# Altium integrated library Analog Devices Data Converters Analog-to-Digital Converters.IntLib: 2400 symbols (part 286 of 338)
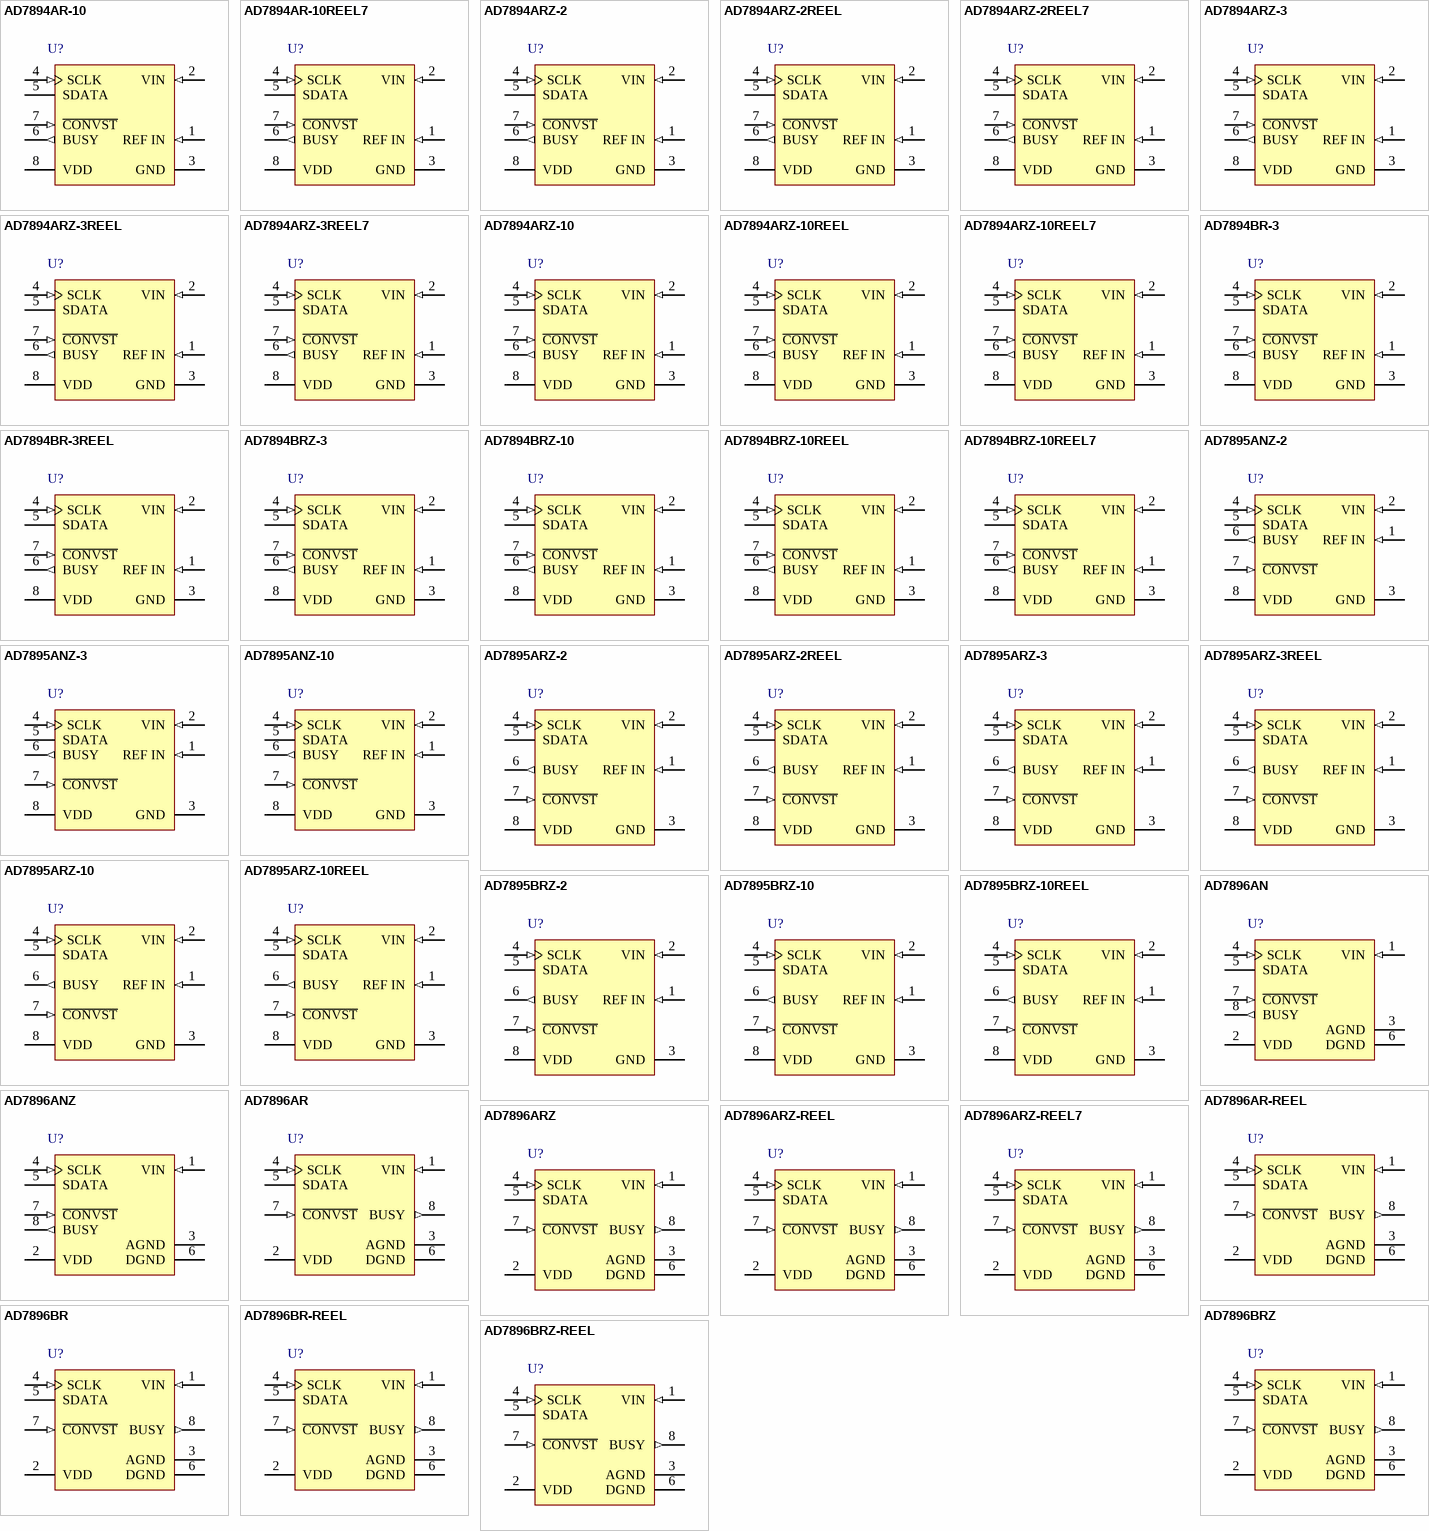
[diagram p311: symbols AD7894AR-10 to AD7896BRZ-REEL]

## AD7895ARZ-3REEL
designator U?
Single 12-Bit Analog-to-Digital Converter with Serial Interface, Serial 3.8 us, 192KSPS, -40 to +85 degC, R-8, Pb-Free, Reel; Part Number: AD7895; Manufacturer: Analog Devices; Resolution (Bits): 12; Channels: 1; Throughput Rate (SPS): 192K; Interface: Ser; DatasheetVersion: Rev.0; PackageVersion: 060506-A; PackageReference: R-8; PackageDescription: 8-Lead Standard Small Outline Package [SOIC_N] Narrow Body; RoHS: Y; Packing: Reel; Mounting Technology: Surface Mount; Code_JEDEC: MS-012-AA; Code_IPC: SOIC127P600-8; ComponentLink1Description: Manufacturer URL; ComponentLink1URL: http://www.analog.com/en/index.html; ComponentLink2Description: Datasheet; ComponentLink2URL: http://www.analog.com/static/imported-files/data_sheets/AD7895.pdf; ComponentLink3Description: Package Specification; ComponentLink3URL: http://www.analog.com/static/imported-files/packages/PKG_PDF/SOIC_Narrow%20(R)/R_8.pdf; ComponentLink4Description: Product URL; ComponentLink4URL: http://www.analog.com/en/analog-to-digital-converters/ad-converters/ad7895/products/product.html
footprint R-8_N (SOIC, 8-Leads, Body 4.9x3.9mm, Pitch 1.27mm, IPC Medium Density)
footprint R-8_L (SOIC, 8-Leads, Body 4.9x3.9mm, Pitch 1.27mm, IPC High Density)
footprint R-8_M (SOIC, 8-Leads, Body 4.9x3.9mm, Pitch 1.27mm, IPC Low Density)
pins: 1 REF IN (in) "Voltage Reference Input.  An external reference source should be connected to this pin to provide the reference voltage for the AD7895's conversion process. The REF IN input is buffered on chip. The nominal reference voltage (See Datasheet)", 2 VIN (in) "Analog Input Channel.  The analog input range is +/- 10 V (AD7895-10), +/- 2.5 V (AD7895-3) and 0 V to +/- 2.5 V (AD7895-2).", 3 GND (power) "Analog Ground. Ground reference for track/hold, comparator, digital circuitry and DAC.", 4 SCLK (in) "Serial Clock Input.   An external serial clock is applied to this input to obtain serial data from the AD7895.A new serial data bit is clocked out on the falling edge of this serial clock. Data is guaranteed valid for 10 ns (See Datasheet)", 5 SDATA (hiz) "Serial Data Output.  Serial data from the AD7895 is provided at this output. The serial data is clocked out by the falling edge of SCLK, but the data can also be read on the falling edge of SCLK. This is possible because (See Datasheet)", 6 BUSY (out) "The BUSY pin is used to indicate when the part is doing a conversion.  The BUSY pin will go high on the falling edge of C\O\N\V\S\T\ and will return low when the conversion is complete.", 7 ~{CONVST} (in) "Convert Start.  Edge-triggered logic input. On the falling edge of this input, the track/hold goes into its hold mode, and conversion is initiated.  If C\O\N\V\S\T\ is low at the end of conversion, the part goes into power (See Datasheet)", 8 VDD (power) "Positive supply voltage, +5 V +/- 5%."

## AD7895ARZ-10
designator U?
Single 12-Bit Analog-to-Digital Converter with Serial Interface, Serial 3.8 us, 192KSPS, -40 to +85 degC, R-8, Pb-Free, Tube; Part Number: AD7895; Manufacturer: Analog Devices; Resolution (Bits): 12; Channels: 1; Throughput Rate (SPS): 192K; Interface: Ser; DatasheetVersion: Rev.0; PackageVersion: 060506-A; PackageReference: R-8; PackageDescription: 8-Lead Standard Small Outline Package [SOIC_N] Narrow Body; RoHS: Y; Packing: Tube; Mounting Technology: Surface Mount; Code_JEDEC: MS-012-AA; Code_IPC: SOIC127P600-8; ComponentLink1Description: Manufacturer URL; ComponentLink1URL: http://www.analog.com/en/index.html; ComponentLink2Description: Datasheet; ComponentLink2URL: http://www.analog.com/static/imported-files/data_sheets/AD7895.pdf; ComponentLink3Description: Package Specification; ComponentLink3URL: http://www.analog.com/static/imported-files/packages/PKG_PDF/SOIC_Narrow%20(R)/R_8.pdf; ComponentLink4Description: Product URL; ComponentLink4URL: http://www.analog.com/en/analog-to-digital-converters/ad-converters/ad7895/products/product.html
footprint R-8_N (SOIC, 8-Leads, Body 4.9x3.9mm, Pitch 1.27mm, IPC Medium Density)
footprint R-8_L (SOIC, 8-Leads, Body 4.9x3.9mm, Pitch 1.27mm, IPC High Density)
footprint R-8_M (SOIC, 8-Leads, Body 4.9x3.9mm, Pitch 1.27mm, IPC Low Density)
pins: 1 REF IN (in) "Voltage Reference Input.  An external reference source should be connected to this pin to provide the reference voltage for the AD7895's conversion process. The REF IN input is buffered on chip. The nominal reference voltage (See Datasheet)", 2 VIN (in) "Analog Input Channel.  The analog input range is +/- 10 V (AD7895-10), +/- 2.5 V (AD7895-3) and 0 V to +/- 2.5 V (AD7895-2).", 3 GND (power) "Analog Ground. Ground reference for track/hold, comparator, digital circuitry and DAC.", 4 SCLK (in) "Serial Clock Input.   An external serial clock is applied to this input to obtain serial data from the AD7895.A new serial data bit is clocked out on the falling edge of this serial clock. Data is guaranteed valid for 10 ns (See Datasheet)", 5 SDATA (hiz) "Serial Data Output.  Serial data from the AD7895 is provided at this output. The serial data is clocked out by the falling edge of SCLK, but the data can also be read on the falling edge of SCLK. This is possible because (See Datasheet)", 6 BUSY (out) "The BUSY pin is used to indicate when the part is doing a conversion.  The BUSY pin will go high on the falling edge of C\O\N\V\S\T\ and will return low when the conversion is complete.", 7 ~{CONVST} (in) "Convert Start.  Edge-triggered logic input. On the falling edge of this input, the track/hold goes into its hold mode, and conversion is initiated.  If C\O\N\V\S\T\ is low at the end of conversion, the part goes into power (See Datasheet)", 8 VDD (power) "Positive supply voltage, +5 V +/- 5%."

## AD7895ARZ-10REEL
designator U?
Single 12-Bit Analog-to-Digital Converter with Serial Interface, Serial 3.8 us, 192KSPS, -40 to +85 degC, R-8, Pb-Free, Reel; Part Number: AD7895; Manufacturer: Analog Devices; Resolution (Bits): 12; Channels: 1; Throughput Rate (SPS): 192K; Interface: Ser; DatasheetVersion: Rev.0; PackageVersion: 060506-A; PackageReference: R-8; PackageDescription: 8-Lead Standard Small Outline Package [SOIC_N] Narrow Body; RoHS: Y; Packing: Reel; Mounting Technology: Surface Mount; Code_JEDEC: MS-012-AA; Code_IPC: SOIC127P600-8; ComponentLink1Description: Manufacturer URL; ComponentLink1URL: http://www.analog.com/en/index.html; ComponentLink2Description: Datasheet; ComponentLink2URL: http://www.analog.com/static/imported-files/data_sheets/AD7895.pdf; ComponentLink3Description: Package Specification; ComponentLink3URL: http://www.analog.com/static/imported-files/packages/PKG_PDF/SOIC_Narrow%20(R)/R_8.pdf; ComponentLink4Description: Product URL; ComponentLink4URL: http://www.analog.com/en/analog-to-digital-converters/ad-converters/ad7895/products/product.html
footprint R-8_N (SOIC, 8-Leads, Body 4.9x3.9mm, Pitch 1.27mm, IPC Medium Density)
footprint R-8_L (SOIC, 8-Leads, Body 4.9x3.9mm, Pitch 1.27mm, IPC High Density)
footprint R-8_M (SOIC, 8-Leads, Body 4.9x3.9mm, Pitch 1.27mm, IPC Low Density)
pins: 1 REF IN (in) "Voltage Reference Input.  An external reference source should be connected to this pin to provide the reference voltage for the AD7895's conversion process. The REF IN input is buffered on chip. The nominal reference voltage (See Datasheet)", 2 VIN (in) "Analog Input Channel.  The analog input range is +/- 10 V (AD7895-10), +/- 2.5 V (AD7895-3) and 0 V to +/- 2.5 V (AD7895-2).", 3 GND (power) "Analog Ground. Ground reference for track/hold, comparator, digital circuitry and DAC.", 4 SCLK (in) "Serial Clock Input.   An external serial clock is applied to this input to obtain serial data from the AD7895.A new serial data bit is clocked out on the falling edge of this serial clock. Data is guaranteed valid for 10 ns (See Datasheet)", 5 SDATA (hiz) "Serial Data Output.  Serial data from the AD7895 is provided at this output. The serial data is clocked out by the falling edge of SCLK, but the data can also be read on the falling edge of SCLK. This is possible because (See Datasheet)", 6 BUSY (out) "The BUSY pin is used to indicate when the part is doing a conversion.  The BUSY pin will go high on the falling edge of C\O\N\V\S\T\ and will return low when the conversion is complete.", 7 ~{CONVST} (in) "Convert Start.  Edge-triggered logic input. On the falling edge of this input, the track/hold goes into its hold mode, and conversion is initiated.  If C\O\N\V\S\T\ is low at the end of conversion, the part goes into power (See Datasheet)", 8 VDD (power) "Positive supply voltage, +5 V +/- 5%."

## AD7895BRZ-2
designator U?
Single 12-Bit Analog-to-Digital Converter with Serial Interface, Serial 3.8 us, 192KSPS, -40 to +85 degC, R-8, Pb-Free, Tube; Part Number: AD7895; Manufacturer: Analog Devices; Resolution (Bits): 12; Channels: 1; Throughput Rate (SPS): 192K; Interface: Ser; DatasheetVersion: Rev.0; PackageVersion: 060506-A; PackageReference: R-8; PackageDescription: 8-Lead Standard Small Outline Package [SOIC_N] Narrow Body; RoHS: Y; Packing: Tube; Mounting Technology: Surface Mount; Code_JEDEC: MS-012-AA; Code_IPC: SOIC127P600-8; ComponentLink1Description: Manufacturer URL; ComponentLink1URL: http://www.analog.com/en/index.html; ComponentLink2Description: Datasheet; ComponentLink2URL: http://www.analog.com/static/imported-files/data_sheets/AD7895.pdf; ComponentLink3Description: Package Specification; ComponentLink3URL: http://www.analog.com/static/imported-files/packages/PKG_PDF/SOIC_Narrow%20(R)/R_8.pdf; ComponentLink4Description: Product URL; ComponentLink4URL: http://www.analog.com/en/analog-to-digital-converters/ad-converters/ad7895/products/product.html
footprint R-8_N (SOIC, 8-Leads, Body 4.9x3.9mm, Pitch 1.27mm, IPC Medium Density)
footprint R-8_L (SOIC, 8-Leads, Body 4.9x3.9mm, Pitch 1.27mm, IPC High Density)
footprint R-8_M (SOIC, 8-Leads, Body 4.9x3.9mm, Pitch 1.27mm, IPC Low Density)
pins: 1 REF IN (in) "Voltage Reference Input.  An external reference source should be connected to this pin to provide the reference voltage for the AD7895's conversion process. The REF IN input is buffered on chip. The nominal reference voltage (See Datasheet)", 2 VIN (in) "Analog Input Channel.  The analog input range is +/- 10 V (AD7895-10), +/- 2.5 V (AD7895-3) and 0 V to +/- 2.5 V (AD7895-2).", 3 GND (power) "Analog Ground. Ground reference for track/hold, comparator, digital circuitry and DAC.", 4 SCLK (in) "Serial Clock Input.   An external serial clock is applied to this input to obtain serial data from the AD7895.A new serial data bit is clocked out on the falling edge of this serial clock. Data is guaranteed valid for 10 ns (See Datasheet)", 5 SDATA (hiz) "Serial Data Output.  Serial data from the AD7895 is provided at this output. The serial data is clocked out by the falling edge of SCLK, but the data can also be read on the falling edge of SCLK. This is possible because (See Datasheet)", 6 BUSY (out) "The BUSY pin is used to indicate when the part is doing a conversion.  The BUSY pin will go high on the falling edge of C\O\N\V\S\T\ and will return low when the conversion is complete.", 7 ~{CONVST} (in) "Convert Start.  Edge-triggered logic input. On the falling edge of this input, the track/hold goes into its hold mode, and conversion is initiated.  If C\O\N\V\S\T\ is low at the end of conversion, the part goes into power (See Datasheet)", 8 VDD (power) "Positive supply voltage, +5 V +/- 5%."

## AD7895BRZ-10
designator U?
Single 12-Bit Analog-to-Digital Converter with Serial Interface, Serial 3.8 us, 192KSPS, -40 to +85 degC, R-8, Pb-Free, Tube; Part Number: AD7895; Manufacturer: Analog Devices; Resolution (Bits): 12; Channels: 1; Throughput Rate (SPS): 192K; Interface: Ser; DatasheetVersion: Rev.0; PackageVersion: 060506-A; PackageReference: R-8; PackageDescription: 8-Lead Standard Small Outline Package [SOIC_N] Narrow Body; RoHS: Y; Packing: Tube; Mounting Technology: Surface Mount; Code_JEDEC: MS-012-AA; Code_IPC: SOIC127P600-8; ComponentLink1Description: Manufacturer URL; ComponentLink1URL: http://www.analog.com/en/index.html; ComponentLink2Description: Datasheet; ComponentLink2URL: http://www.analog.com/static/imported-files/data_sheets/AD7895.pdf; ComponentLink3Description: Package Specification; ComponentLink3URL: http://www.analog.com/static/imported-files/packages/PKG_PDF/SOIC_Narrow%20(R)/R_8.pdf; ComponentLink4Description: Product URL; ComponentLink4URL: http://www.analog.com/en/analog-to-digital-converters/ad-converters/ad7895/products/product.html
footprint R-8_N (SOIC, 8-Leads, Body 4.9x3.9mm, Pitch 1.27mm, IPC Medium Density)
footprint R-8_L (SOIC, 8-Leads, Body 4.9x3.9mm, Pitch 1.27mm, IPC High Density)
footprint R-8_M (SOIC, 8-Leads, Body 4.9x3.9mm, Pitch 1.27mm, IPC Low Density)
pins: 1 REF IN (in) "Voltage Reference Input.  An external reference source should be connected to this pin to provide the reference voltage for the AD7895's conversion process. The REF IN input is buffered on chip. The nominal reference voltage (See Datasheet)", 2 VIN (in) "Analog Input Channel.  The analog input range is +/- 10 V (AD7895-10), +/- 2.5 V (AD7895-3) and 0 V to +/- 2.5 V (AD7895-2).", 3 GND (power) "Analog Ground. Ground reference for track/hold, comparator, digital circuitry and DAC.", 4 SCLK (in) "Serial Clock Input.   An external serial clock is applied to this input to obtain serial data from the AD7895.A new serial data bit is clocked out on the falling edge of this serial clock. Data is guaranteed valid for 10 ns (See Datasheet)", 5 SDATA (hiz) "Serial Data Output.  Serial data from the AD7895 is provided at this output. The serial data is clocked out by the falling edge of SCLK, but the data can also be read on the falling edge of SCLK. This is possible because (See Datasheet)", 6 BUSY (out) "The BUSY pin is used to indicate when the part is doing a conversion.  The BUSY pin will go high on the falling edge of C\O\N\V\S\T\ and will return low when the conversion is complete.", 7 ~{CONVST} (in) "Convert Start.  Edge-triggered logic input. On the falling edge of this input, the track/hold goes into its hold mode, and conversion is initiated.  If C\O\N\V\S\T\ is low at the end of conversion, the part goes into power (See Datasheet)", 8 VDD (power) "Positive supply voltage, +5 V +/- 5%."

## AD7895BRZ-10REEL
designator U?
Single 12-Bit Analog-to-Digital Converter with Serial Interface, Serial 3.8 us, 192KSPS, -40 to +85 degC, R-8, Pb-Free, Reel; Part Number: AD7895; Manufacturer: Analog Devices; Resolution (Bits): 12; Channels: 1; Throughput Rate (SPS): 192K; Interface: Ser; DatasheetVersion: Rev.0; PackageVersion: 060506-A; PackageReference: R-8; PackageDescription: 8-Lead Standard Small Outline Package [SOIC_N] Narrow Body; RoHS: Y; Packing: Reel; Mounting Technology: Surface Mount; Code_JEDEC: MS-012-AA; Code_IPC: SOIC127P600-8; ComponentLink1Description: Manufacturer URL; ComponentLink1URL: http://www.analog.com/en/index.html; ComponentLink2Description: Datasheet; ComponentLink2URL: http://www.analog.com/static/imported-files/data_sheets/AD7895.pdf; ComponentLink3Description: Package Specification; ComponentLink3URL: http://www.analog.com/static/imported-files/packages/PKG_PDF/SOIC_Narrow%20(R)/R_8.pdf; ComponentLink4Description: Product URL; ComponentLink4URL: http://www.analog.com/en/analog-to-digital-converters/ad-converters/ad7895/products/product.html
footprint R-8_N (SOIC, 8-Leads, Body 4.9x3.9mm, Pitch 1.27mm, IPC Medium Density)
footprint R-8_L (SOIC, 8-Leads, Body 4.9x3.9mm, Pitch 1.27mm, IPC High Density)
footprint R-8_M (SOIC, 8-Leads, Body 4.9x3.9mm, Pitch 1.27mm, IPC Low Density)
pins: 1 REF IN (in) "Voltage Reference Input.  An external reference source should be connected to this pin to provide the reference voltage for the AD7895's conversion process. The REF IN input is buffered on chip. The nominal reference voltage (See Datasheet)", 2 VIN (in) "Analog Input Channel.  The analog input range is +/- 10 V (AD7895-10), +/- 2.5 V (AD7895-3) and 0 V to +/- 2.5 V (AD7895-2).", 3 GND (power) "Analog Ground. Ground reference for track/hold, comparator, digital circuitry and DAC.", 4 SCLK (in) "Serial Clock Input.   An external serial clock is applied to this input to obtain serial data from the AD7895.A new serial data bit is clocked out on the falling edge of this serial clock. Data is guaranteed valid for 10 ns (See Datasheet)", 5 SDATA (hiz) "Serial Data Output.  Serial data from the AD7895 is provided at this output. The serial data is clocked out by the falling edge of SCLK, but the data can also be read on the falling edge of SCLK. This is possible because (See Datasheet)", 6 BUSY (out) "The BUSY pin is used to indicate when the part is doing a conversion.  The BUSY pin will go high on the falling edge of C\O\N\V\S\T\ and will return low when the conversion is complete.", 7 ~{CONVST} (in) "Convert Start.  Edge-triggered logic input. On the falling edge of this input, the track/hold goes into its hold mode, and conversion is initiated.  If C\O\N\V\S\T\ is low at the end of conversion, the part goes into power (See Datasheet)", 8 VDD (power) "Positive supply voltage, +5 V +/- 5%."

## AD7896AN
designator U?
Single 12-Bit Analog-to-Digital Converter with Serial Interface, 8 us, 2.7 V to 5.5 V, 100KSPS, -40 to +85 degC, N-8, Tube; Part Number: AD7896; Manufacturer: Analog Devices; Resolution (Bits): 12; Channels: 1; Throughput Rate (SPS): 100K; Interface: Ser; DatasheetVersion: Rev.D; PackageVersion: 070606-A; PackageReference: N-8; PackageDescription: 8-Lead Plastic Dual In-Line Package [PDIP] Narrow Body; RoHS: N; Packing: Tube; Mounting Technology: Through-hole; Code_JEDEC: MS-001; ComponentLink1Description: Manufacturer URL; ComponentLink1URL: http://www.analog.com/en/index.html; ComponentLink2Description: Datasheet; ComponentLink2URL: http://www.analog.com/static/imported-files/data_sheets/AD7896.pdf; ComponentLink3Description: Package Specification; ComponentLink3URL: http://www.analog.com/static/imported-files/packages/PKG_PDF/PDIP(N)/N_8.pdf; ComponentLink4Description: Product URL; ComponentLink4URL: http://www.analog.com/en/analog-to-digital-converters/ad-converters/ad7896/products/product.html
footprint N-8 (DIP, 8-Leads, Row Spacing 7.62mm, Pitch 2.54mm, Body 9.6x6.6mm)
pins: 1 VIN (in) "Analog Input. The analog input range is 0 V to VDD.", 2 VDD (power) "Positive supply voltage, 2.7 V to 5.5 V.", 3 AGND (power) "Analog Ground. Ground reference for track-and-hold, comparator, and DAC.", 4 SCLK (in) "Serial Clock Input. An external serial clock is applied to this input to obtain serial data from the AD7896. A new serial data bit is clocked out on the falling edge of this serial clock. Data is guaranteed valid for 10 ns (See Datasheet)", 5 SDATA (hiz) "Serial Data Output.  Serial data from the AD7896 is provided at this output. The serial data is clocked out by the falling edge of SCLK, but the data can also be read on the falling edge of the SCLK. This is possible because (See Datasheet)", 6 DGND (power) "Digital Ground. Ground reference for digital circuitry.", 7 ~{CONVST} (in) "Convert Start. Edge-triggered logic input. On the falling edge of this input, the track-and-hold goes into its hold mode and conversion is initiated. If C\O\N\V\S\T\ is low at the end of conversion, the part goes into (See Datasheet)", 8 BUSY (out) "The BUSY pin is used to indicate when the part is doing a conversion. The BUSY pin goes high on the falling edge of C\O\N\V\S\T\ and returns low when the conversion is complete."

## AD7896ANZ
designator U?
Single 12-Bit Analog-to-Digital Converter with Serial Interface, 8 us, 2.7 V to 5.5 V, 100KSPS, -40 to +85 degC, N-8, Pb-Free, Tube; Part Number: AD7896; Manufacturer: Analog Devices; Resolution (Bits): 12; Channels: 1; Throughput Rate (SPS): 100K; Interface: Ser; DatasheetVersion: Rev.D; PackageVersion: 070606-A; PackageReference: N-8; PackageDescription: 8-Lead Plastic Dual In-Line Package [PDIP] Narrow Body; RoHS: Y; Packing: Tube; Mounting Technology: Through-hole; Code_JEDEC: MS-001; ComponentLink1Description: Manufacturer URL; ComponentLink1URL: http://www.analog.com/en/index.html; ComponentLink2Description: Datasheet; ComponentLink2URL: http://www.analog.com/static/imported-files/data_sheets/AD7896.pdf; ComponentLink3Description: Package Specification; ComponentLink3URL: http://www.analog.com/static/imported-files/packages/PKG_PDF/PDIP(N)/N_8.pdf; ComponentLink4Description: Product URL; ComponentLink4URL: http://www.analog.com/en/analog-to-digital-converters/ad-converters/ad7896/products/product.html
footprint N-8 (DIP, 8-Leads, Row Spacing 7.62mm, Pitch 2.54mm, Body 9.6x6.6mm)
pins: 1 VIN (in) "Analog Input. The analog input range is 0 V to VDD.", 2 VDD (power) "Positive supply voltage, 2.7 V to 5.5 V.", 3 AGND (power) "Analog Ground. Ground reference for track-and-hold, comparator, and DAC.", 4 SCLK (in) "Serial Clock Input. An external serial clock is applied to this input to obtain serial data from the AD7896. A new serial data bit is clocked out on the falling edge of this serial clock. Data is guaranteed valid for 10 ns (See Datasheet)", 5 SDATA (hiz) "Serial Data Output.  Serial data from the AD7896 is provided at this output. The serial data is clocked out by the falling edge of SCLK, but the data can also be read on the falling edge of the SCLK. This is possible because (See Datasheet)", 6 DGND (power) "Digital Ground. Ground reference for digital circuitry.", 7 ~{CONVST} (in) "Convert Start. Edge-triggered logic input. On the falling edge of this input, the track-and-hold goes into its hold mode and conversion is initiated. If C\O\N\V\S\T\ is low at the end of conversion, the part goes into (See Datasheet)", 8 BUSY (out) "The BUSY pin is used to indicate when the part is doing a conversion. The BUSY pin goes high on the falling edge of C\O\N\V\S\T\ and returns low when the conversion is complete."

## AD7896AR
designator U?
Single 12-Bit Analog-to-Digital Converter with Serial Interface, 8 us, 2.7 V to 5.5 V, 100KSPS, -40 to +85 degC, R-8, Tube; Part Number: AD7896; Manufacturer: Analog Devices; Resolution (Bits): 12; Channels: 1; Throughput Rate (SPS): 100K; Interface: Ser; DatasheetVersion: Rev.D; PackageVersion: 060506-A; PackageReference: R-8; PackageDescription: 8-Lead Standard Small Outline Package [SOIC_N] Narrow Body; RoHS: N; Packing: Tube; Mounting Technology: Surface Mount; Code_JEDEC: MS-012-AA; Code_IPC: SOIC127P600-8; ComponentLink1Description: Manufacturer URL; ComponentLink1URL: http://www.analog.com/en/index.html; ComponentLink2Description: Datasheet; ComponentLink2URL: http://www.analog.com/static/imported-files/data_sheets/AD7896.pdf; ComponentLink3Description: Package Specification; ComponentLink3URL: http://www.analog.com/static/imported-files/packages/PKG_PDF/SOIC_Narrow%20(R)/R_8.pdf; ComponentLink4Description: Product URL; ComponentLink4URL: http://www.analog.com/en/analog-to-digital-converters/ad-converters/ad7896/products/product.html
footprint R-8_N (SOIC, 8-Leads, Body 4.9x3.9mm, Pitch 1.27mm, IPC Medium Density)
footprint R-8_L (SOIC, 8-Leads, Body 4.9x3.9mm, Pitch 1.27mm, IPC High Density)
footprint R-8_M (SOIC, 8-Leads, Body 4.9x3.9mm, Pitch 1.27mm, IPC Low Density)
pins: 1 VIN (in) "Analog Input. The analog input range is 0 V to VDD.", 2 VDD (power) "Positive supply voltage, 2.7 V to 5.5 V", 3 AGND (power) "Analog Ground. Ground reference for track-and-hold, comparator, and DAC.", 4 SCLK (in) "Serial Clock Input. An external serial clock is applied to this input to obtain serial data from the AD7896. A new serial data bit is clocked out on the falling edge of this serial clock. Data is guaranteed valid for 10 ns (See Datasheet)", 5 SDATA (hiz) "Serial Data Output.  Serial data from the AD7896 is provided at this output. The serial data is clocked out by the falling edge of SCLK, but the data can also be read on the falling edge of the SCLK. This is possible because (See Datasheet)", 6 DGND (power) "Digital Ground. Ground reference for digital circuitry", 7 ~{CONVST} (in) "Convert Start. Edge-triggered logic input. On the falling edge of this input, the track-and-hold goes into its hold mode and conversion is initiated. If C\O\N\V\S\T\ is low at the end of conversion, the part goes into (See Datasheet)", 8 BUSY (out) "The BUSY pin is used to indicate when the part is doing a conversion. The BUSY pin goes high on the falling edge of C\O\N\V\S\T\ and returns low when the conversion is complete."

## AD7896AR-REEL
designator U?
Single 12-Bit Analog-to-Digital Converter with Serial Interface, 8 us, 2.7 V to 5.5 V, 100KSPS, -40 to +85 degC, R-8, Reel; Part Number: AD7896; Manufacturer: Analog Devices; Resolution (Bits): 12; Channels: 1; Throughput Rate (SPS): 100K; Interface: Ser; DatasheetVersion: Rev.D; PackageVersion: 060506-A; PackageReference: R-8; PackageDescription: 8-Lead Standard Small Outline Package [SOIC_N] Narrow Body; RoHS: N; Packing: Reel; Mounting Technology: Surface Mount; Code_JEDEC: MS-012-AA; Code_IPC: SOIC127P600-8; ComponentLink1Description: Manufacturer URL; ComponentLink1URL: http://www.analog.com/en/index.html; ComponentLink2Description: Datasheet; ComponentLink2URL: http://www.analog.com/static/imported-files/data_sheets/AD7896.pdf; ComponentLink3Description: Package Specification; ComponentLink3URL: http://www.analog.com/static/imported-files/packages/PKG_PDF/SOIC_Narrow%20(R)/R_8.pdf; ComponentLink4Description: Product URL; ComponentLink4URL: http://www.analog.com/en/analog-to-digital-converters/ad-converters/ad7896/products/product.html
footprint R-8_N (SOIC, 8-Leads, Body 4.9x3.9mm, Pitch 1.27mm, IPC Medium Density)
footprint R-8_L (SOIC, 8-Leads, Body 4.9x3.9mm, Pitch 1.27mm, IPC High Density)
footprint R-8_M (SOIC, 8-Leads, Body 4.9x3.9mm, Pitch 1.27mm, IPC Low Density)
pins: 1 VIN (in) "Analog Input. The analog input range is 0 V to VDD.", 2 VDD (power) "Positive supply voltage, 2.7 V to 5.5 V", 3 AGND (power) "Analog Ground. Ground reference for track-and-hold, comparator, and DAC.", 4 SCLK (in) "Serial Clock Input. An external serial clock is applied to this input to obtain serial data from the AD7896. A new serial data bit is clocked out on the falling edge of this serial clock. Data is guaranteed valid for 10 ns (See Datasheet)", 5 SDATA (hiz) "Serial Data Output.  Serial data from the AD7896 is provided at this output. The serial data is clocked out by the falling edge of SCLK, but the data can also be read on the falling edge of the SCLK. This is possible because (See Datasheet)", 6 DGND (power) "Digital Ground. Ground reference for digital circuitry", 7 ~{CONVST} (in) "Convert Start. Edge-triggered logic input. On the falling edge of this input, the track-and-hold goes into its hold mode and conversion is initiated. If C\O\N\V\S\T\ is low at the end of conversion, the part goes into (See Datasheet)", 8 BUSY (out) "The BUSY pin is used to indicate when the part is doing a conversion. The BUSY pin goes high on the falling edge of C\O\N\V\S\T\ and returns low when the conversion is complete."

## AD7896ARZ
designator U?
Single 12-Bit Analog-to-Digital Converter with Serial Interface, 8 us, 2.7 V to 5.5 V, 100KSPS, -40 to +85 degC, R-8, Pb-Free, Tube; Part Number: AD7896; Manufacturer: Analog Devices; Resolution (Bits): 12; Channels: 1; Throughput Rate (SPS): 100K; Interface: Ser; DatasheetVersion: Rev.D; PackageVersion: 060506-A; PackageReference: R-8; PackageDescription: 8-Lead Standard Small Outline Package [SOIC_N] Narrow Body; RoHS: Y; Packing: Tube; Mounting Technology: Surface Mount; Code_JEDEC: MS-012-AA; Code_IPC: SOIC127P600-8; ComponentLink1Description: Manufacturer URL; ComponentLink1URL: http://www.analog.com/en/index.html; ComponentLink2Description: Datasheet; ComponentLink2URL: http://www.analog.com/static/imported-files/data_sheets/AD7896.pdf; ComponentLink3Description: Package Specification; ComponentLink3URL: http://www.analog.com/static/imported-files/packages/PKG_PDF/SOIC_Narrow%20(R)/R_8.pdf; ComponentLink4Description: Product URL; ComponentLink4URL: http://www.analog.com/en/analog-to-digital-converters/ad-converters/ad7896/products/product.html
footprint R-8_N (SOIC, 8-Leads, Body 4.9x3.9mm, Pitch 1.27mm, IPC Medium Density)
footprint R-8_L (SOIC, 8-Leads, Body 4.9x3.9mm, Pitch 1.27mm, IPC High Density)
footprint R-8_M (SOIC, 8-Leads, Body 4.9x3.9mm, Pitch 1.27mm, IPC Low Density)
pins: 1 VIN (in) "Analog Input. The analog input range is 0 V to VDD.", 2 VDD (power) "Positive supply voltage, 2.7 V to 5.5 V", 3 AGND (power) "Analog Ground. Ground reference for track-and-hold, comparator, and DAC.", 4 SCLK (in) "Serial Clock Input. An external serial clock is applied to this input to obtain serial data from the AD7896. A new serial data bit is clocked out on the falling edge of this serial clock. Data is guaranteed valid for 10 ns (See Datasheet)", 5 SDATA (hiz) "Serial Data Output.  Serial data from the AD7896 is provided at this output. The serial data is clocked out by the falling edge of SCLK, but the data can also be read on the falling edge of the SCLK. This is possible because (See Datasheet)", 6 DGND (power) "Digital Ground. Ground reference for digital circuitry", 7 ~{CONVST} (in) "Convert Start. Edge-triggered logic input. On the falling edge of this input, the track-and-hold goes into its hold mode and conversion is initiated. If C\O\N\V\S\T\ is low at the end of conversion, the part goes into (See Datasheet)", 8 BUSY (out) "The BUSY pin is used to indicate when the part is doing a conversion. The BUSY pin goes high on the falling edge of C\O\N\V\S\T\ and returns low when the conversion is complete."

## AD7896ARZ-REEL
designator U?
Single 12-Bit Analog-to-Digital Converter with Serial Interface, 8 us, 2.7 V to 5.5 V, 100KSPS, -40 to +85 degC, R-8, Pb-Free, Reel; Part Number: AD7896; Manufacturer: Analog Devices; Resolution (Bits): 12; Channels: 1; Throughput Rate (SPS): 100K; Interface: Ser; DatasheetVersion: Rev.D; PackageVersion: 060506-A; PackageReference: R-8; PackageDescription: 8-Lead Standard Small Outline Package [SOIC_N] Narrow Body; RoHS: Y; Packing: Reel; Mounting Technology: Surface Mount; Code_JEDEC: MS-012-AA; Code_IPC: SOIC127P600-8; ComponentLink1Description: Manufacturer URL; ComponentLink1URL: http://www.analog.com/en/index.html; ComponentLink2Description: Datasheet; ComponentLink2URL: http://www.analog.com/static/imported-files/data_sheets/AD7896.pdf; ComponentLink3Description: Package Specification; ComponentLink3URL: http://www.analog.com/static/imported-files/packages/PKG_PDF/SOIC_Narrow%20(R)/R_8.pdf; ComponentLink4Description: Product URL; ComponentLink4URL: http://www.analog.com/en/analog-to-digital-converters/ad-converters/ad7896/products/product.html
footprint R-8_N (SOIC, 8-Leads, Body 4.9x3.9mm, Pitch 1.27mm, IPC Medium Density)
footprint R-8_L (SOIC, 8-Leads, Body 4.9x3.9mm, Pitch 1.27mm, IPC High Density)
footprint R-8_M (SOIC, 8-Leads, Body 4.9x3.9mm, Pitch 1.27mm, IPC Low Density)
pins: 1 VIN (in) "Analog Input. The analog input range is 0 V to VDD.", 2 VDD (power) "Positive supply voltage, 2.7 V to 5.5 V", 3 AGND (power) "Analog Ground. Ground reference for track-and-hold, comparator, and DAC.", 4 SCLK (in) "Serial Clock Input. An external serial clock is applied to this input to obtain serial data from the AD7896. A new serial data bit is clocked out on the falling edge of this serial clock. Data is guaranteed valid for 10 ns (See Datasheet)", 5 SDATA (hiz) "Serial Data Output.  Serial data from the AD7896 is provided at this output. The serial data is clocked out by the falling edge of SCLK, but the data can also be read on the falling edge of the SCLK. This is possible because (See Datasheet)", 6 DGND (power) "Digital Ground. Ground reference for digital circuitry", 7 ~{CONVST} (in) "Convert Start. Edge-triggered logic input. On the falling edge of this input, the track-and-hold goes into its hold mode and conversion is initiated. If C\O\N\V\S\T\ is low at the end of conversion, the part goes into (See Datasheet)", 8 BUSY (out) "The BUSY pin is used to indicate when the part is doing a conversion. The BUSY pin goes high on the falling edge of C\O\N\V\S\T\ and returns low when the conversion is complete."

## AD7896ARZ-REEL7
designator U?
Single 12-Bit Analog-to-Digital Converter with Serial Interface, 8 us, 2.7 V to 5.5 V, 100KSPS, 0 to +70 degC, R-8, Pb-Free, Reel; Part Number: AD7896; Manufacturer: Analog Devices; Resolution (Bits): 12; Channels: 1; Throughput Rate (SPS): 100K; Interface: Ser; DatasheetVersion: Rev.D; PackageVersion: 060506-A; PackageReference: R-8; PackageDescription: 8-Lead Standard Small Outline Package [SOIC_N] Narrow Body; RoHS: Y; Packing: Reel; Mounting Technology: Surface Mount; Code_JEDEC: MS-012-AA; Code_IPC: SOIC127P600-8; ComponentLink1Description: Manufacturer URL; ComponentLink1URL: http://www.analog.com/en/index.html; ComponentLink2Description: Datasheet; ComponentLink2URL: http://www.analog.com/static/imported-files/data_sheets/AD7896.pdf; ComponentLink3Description: Package Specification; ComponentLink3URL: http://www.analog.com/static/imported-files/packages/PKG_PDF/SOIC_Narrow%20(R)/R_8.pdf; ComponentLink4Description: Product URL; ComponentLink4URL: http://www.analog.com/en/analog-to-digital-converters/ad-converters/ad7896/products/product.html
footprint R-8_N (SOIC, 8-Leads, Body 4.9x3.9mm, Pitch 1.27mm, IPC Medium Density)
footprint R-8_L (SOIC, 8-Leads, Body 4.9x3.9mm, Pitch 1.27mm, IPC High Density)
footprint R-8_M (SOIC, 8-Leads, Body 4.9x3.9mm, Pitch 1.27mm, IPC Low Density)
pins: 1 VIN (in) "Analog Input. The analog input range is 0 V to VDD.", 2 VDD (power) "Positive supply voltage, 2.7 V to 5.5 V", 3 AGND (power) "Analog Ground. Ground reference for track-and-hold, comparator, and DAC.", 4 SCLK (in) "Serial Clock Input. An external serial clock is applied to this input to obtain serial data from the AD7896. A new serial data bit is clocked out on the falling edge of this serial clock. Data is guaranteed valid for 10 ns (See Datasheet)", 5 SDATA (hiz) "Serial Data Output.  Serial data from the AD7896 is provided at this output. The serial data is clocked out by the falling edge of SCLK, but the data can also be read on the falling edge of the SCLK. This is possible because (See Datasheet)", 6 DGND (power) "Digital Ground. Ground reference for digital circuitry", 7 ~{CONVST} (in) "Convert Start. Edge-triggered logic input. On the falling edge of this input, the track-and-hold goes into its hold mode and conversion is initiated. If C\O\N\V\S\T\ is low at the end of conversion, the part goes into (See Datasheet)", 8 BUSY (out) "The BUSY pin is used to indicate when the part is doing a conversion. The BUSY pin goes high on the falling edge of C\O\N\V\S\T\ and returns low when the conversion is complete."

## AD7896BR
designator U?
Single 12-Bit Analog-to-Digital Converter with Serial Interface, 8 us, 2.7 V to 5.5 V, 100KSPS, -40 to +85 degC, R-8, Tube; Part Number: AD7896; Manufacturer: Analog Devices; Resolution (Bits): 12; Channels: 1; Throughput Rate (SPS): 100K; Interface: Ser; DatasheetVersion: Rev.D; PackageVersion: 060506-A; PackageReference: R-8; PackageDescription: 8-Lead Standard Small Outline Package [SOIC_N] Narrow Body; RoHS: N; Packing: Tube; Mounting Technology: Surface Mount; Code_JEDEC: MS-012-AA; Code_IPC: SOIC127P600-8; ComponentLink1Description: Manufacturer URL; ComponentLink1URL: http://www.analog.com/en/index.html; ComponentLink2Description: Datasheet; ComponentLink2URL: http://www.analog.com/static/imported-files/data_sheets/AD7896.pdf; ComponentLink3Description: Package Specification; ComponentLink3URL: http://www.analog.com/static/imported-files/packages/PKG_PDF/SOIC_Narrow%20(R)/R_8.pdf; ComponentLink4Description: Product URL; ComponentLink4URL: http://www.analog.com/en/analog-to-digital-converters/ad-converters/ad7896/products/product.html
footprint R-8_N (SOIC, 8-Leads, Body 4.9x3.9mm, Pitch 1.27mm, IPC Medium Density)
footprint R-8_L (SOIC, 8-Leads, Body 4.9x3.9mm, Pitch 1.27mm, IPC High Density)
footprint R-8_M (SOIC, 8-Leads, Body 4.9x3.9mm, Pitch 1.27mm, IPC Low Density)
pins: 1 VIN (in) "Analog Input. The analog input range is 0 V to VDD.", 2 VDD (power) "Positive supply voltage, 2.7 V to 5.5 V", 3 AGND (power) "Analog Ground. Ground reference for track-and-hold, comparator, and DAC.", 4 SCLK (in) "Serial Clock Input. An external serial clock is applied to this input to obtain serial data from the AD7896. A new serial data bit is clocked out on the falling edge of this serial clock. Data is guaranteed valid for 10 ns (See Datasheet)", 5 SDATA (hiz) "Serial Data Output.  Serial data from the AD7896 is provided at this output. The serial data is clocked out by the falling edge of SCLK, but the data can also be read on the falling edge of the SCLK. This is possible because (See Datasheet)", 6 DGND (power) "Digital Ground. Ground reference for digital circuitry", 7 ~{CONVST} (in) "Convert Start. Edge-triggered logic input. On the falling edge of this input, the track-and-hold goes into its hold mode and conversion is initiated. If C\O\N\V\S\T\ is low at the end of conversion, the part goes into (See Datasheet)", 8 BUSY (out) "The BUSY pin is used to indicate when the part is doing a conversion. The BUSY pin goes high on the falling edge of C\O\N\V\S\T\ and returns low when the conversion is complete."

## AD7896BR-REEL
designator U?
Single 12-Bit Analog-to-Digital Converter with Serial Interface, 8 us, 2.7 V to 5.5 V, 100KSPS, -40 to +85 degC, R-8, Reel; Part Number: AD7896; Manufacturer: Analog Devices; Resolution (Bits): 12; Channels: 1; Throughput Rate (SPS): 100K; Interface: Ser; DatasheetVersion: Rev.D; PackageVersion: 060506-A; PackageReference: R-8; PackageDescription: 8-Lead Standard Small Outline Package [SOIC_N] Narrow Body; RoHS: N; Packing: Reel; Mounting Technology: Surface Mount; Code_JEDEC: MS-012-AA; Code_IPC: SOIC127P600-8; ComponentLink1Description: Manufacturer URL; ComponentLink1URL: http://www.analog.com/en/index.html; ComponentLink2Description: Datasheet; ComponentLink2URL: http://www.analog.com/static/imported-files/data_sheets/AD7896.pdf; ComponentLink3Description: Package Specification; ComponentLink3URL: http://www.analog.com/static/imported-files/packages/PKG_PDF/SOIC_Narrow%20(R)/R_8.pdf; ComponentLink4Description: Product URL; ComponentLink4URL: http://www.analog.com/en/analog-to-digital-converters/ad-converters/ad7896/products/product.html
footprint R-8_N (SOIC, 8-Leads, Body 4.9x3.9mm, Pitch 1.27mm, IPC Medium Density)
footprint R-8_L (SOIC, 8-Leads, Body 4.9x3.9mm, Pitch 1.27mm, IPC High Density)
footprint R-8_M (SOIC, 8-Leads, Body 4.9x3.9mm, Pitch 1.27mm, IPC Low Density)
pins: 1 VIN (in) "Analog Input. The analog input range is 0 V to VDD.", 2 VDD (power) "Positive supply voltage, 2.7 V to 5.5 V", 3 AGND (power) "Analog Ground. Ground reference for track-and-hold, comparator, and DAC.", 4 SCLK (in) "Serial Clock Input. An external serial clock is applied to this input to obtain serial data from the AD7896. A new serial data bit is clocked out on the falling edge of this serial clock. Data is guaranteed valid for 10 ns (See Datasheet)", 5 SDATA (hiz) "Serial Data Output.  Serial data from the AD7896 is provided at this output. The serial data is clocked out by the falling edge of SCLK, but the data can also be read on the falling edge of the SCLK. This is possible because (See Datasheet)", 6 DGND (power) "Digital Ground. Ground reference for digital circuitry", 7 ~{CONVST} (in) "Convert Start. Edge-triggered logic input. On the falling edge of this input, the track-and-hold goes into its hold mode and conversion is initiated. If C\O\N\V\S\T\ is low at the end of conversion, the part goes into (See Datasheet)", 8 BUSY (out) "The BUSY pin is used to indicate when the part is doing a conversion. The BUSY pin goes high on the falling edge of C\O\N\V\S\T\ and returns low when the conversion is complete."

## AD7896BRZ
designator U?
Single 12-Bit Analog-to-Digital Converter with Serial Interface, 8 us, 2.7 V to 5.5 V, 100KSPS, -40 to +85 degC, R-8, Pb-Free, Tube; Part Number: AD7896; Manufacturer: Analog Devices; Resolution (Bits): 12; Channels: 1; Throughput Rate (SPS): 100K; Interface: Ser; DatasheetVersion: Rev.D; PackageVersion: 060506-A; PackageReference: R-8; PackageDescription: 8-Lead Standard Small Outline Package [SOIC_N] Narrow Body; RoHS: Y; Packing: Tube; Mounting Technology: Surface Mount; Code_JEDEC: MS-012-AA; Code_IPC: SOIC127P600-8; ComponentLink1Description: Manufacturer URL; ComponentLink1URL: http://www.analog.com/en/index.html; ComponentLink2Description: Datasheet; ComponentLink2URL: http://www.analog.com/static/imported-files/data_sheets/AD7896.pdf; ComponentLink3Description: Package Specification; ComponentLink3URL: http://www.analog.com/static/imported-files/packages/PKG_PDF/SOIC_Narrow%20(R)/R_8.pdf; ComponentLink4Description: Product URL; ComponentLink4URL: http://www.analog.com/en/analog-to-digital-converters/ad-converters/ad7896/products/product.html
footprint R-8_N (SOIC, 8-Leads, Body 4.9x3.9mm, Pitch 1.27mm, IPC Medium Density)
footprint R-8_L (SOIC, 8-Leads, Body 4.9x3.9mm, Pitch 1.27mm, IPC High Density)
footprint R-8_M (SOIC, 8-Leads, Body 4.9x3.9mm, Pitch 1.27mm, IPC Low Density)
pins: 1 VIN (in) "Analog Input. The analog input range is 0 V to VDD.", 2 VDD (power) "Positive supply voltage, 2.7 V to 5.5 V", 3 AGND (power) "Analog Ground. Ground reference for track-and-hold, comparator, and DAC.", 4 SCLK (in) "Serial Clock Input. An external serial clock is applied to this input to obtain serial data from the AD7896. A new serial data bit is clocked out on the falling edge of this serial clock. Data is guaranteed valid for 10 ns (See Datasheet)", 5 SDATA (hiz) "Serial Data Output.  Serial data from the AD7896 is provided at this output. The serial data is clocked out by the falling edge of SCLK, but the data can also be read on the falling edge of the SCLK. This is possible because (See Datasheet)", 6 DGND (power) "Digital Ground. Ground reference for digital circuitry", 7 ~{CONVST} (in) "Convert Start. Edge-triggered logic input. On the falling edge of this input, the track-and-hold goes into its hold mode and conversion is initiated. If C\O\N\V\S\T\ is low at the end of conversion, the part goes into (See Datasheet)", 8 BUSY (out) "The BUSY pin is used to indicate when the part is doing a conversion. The BUSY pin goes high on the falling edge of C\O\N\V\S\T\ and returns low when the conversion is complete."

## AD7896BRZ-REEL
designator U?
Single 12-Bit Analog-to-Digital Converter with Serial Interface, 8 us, 2.7 V to 5.5 V, 100KSPS, -40 to +85 degC, R-8, Pb-Free, Reel; Part Number: AD7896; Manufacturer: Analog Devices; Resolution (Bits): 12; Channels: 1; Throughput Rate (SPS): 100K; Interface: Ser; DatasheetVersion: Rev.D; PackageVersion: 060506-A; PackageReference: R-8; PackageDescription: 8-Lead Standard Small Outline Package [SOIC_N] Narrow Body; RoHS: Y; Packing: Reel; Mounting Technology: Surface Mount; Code_JEDEC: MS-012-AA; Code_IPC: SOIC127P600-8; ComponentLink1Description: Manufacturer URL; ComponentLink1URL: http://www.analog.com/en/index.html; ComponentLink2Description: Datasheet; ComponentLink2URL: http://www.analog.com/static/imported-files/data_sheets/AD7896.pdf; ComponentLink3Description: Package Specification; ComponentLink3URL: http://www.analog.com/static/imported-files/packages/PKG_PDF/SOIC_Narrow%20(R)/R_8.pdf; ComponentLink4Description: Product URL; ComponentLink4URL: http://www.analog.com/en/analog-to-digital-converters/ad-converters/ad7896/products/product.html
footprint R-8_N (SOIC, 8-Leads, Body 4.9x3.9mm, Pitch 1.27mm, IPC Medium Density)
footprint R-8_L (SOIC, 8-Leads, Body 4.9x3.9mm, Pitch 1.27mm, IPC High Density)
footprint R-8_M (SOIC, 8-Leads, Body 4.9x3.9mm, Pitch 1.27mm, IPC Low Density)
pins: 1 VIN (in) "Analog Input. The analog input range is 0 V to VDD.", 2 VDD (power) "Positive supply voltage, 2.7 V to 5.5 V", 3 AGND (power) "Analog Ground. Ground reference for track-and-hold, comparator, and DAC.", 4 SCLK (in) "Serial Clock Input. An external serial clock is applied to this input to obtain serial data from the AD7896. A new serial data bit is clocked out on the falling edge of this serial clock. Data is guaranteed valid for 10 ns (See Datasheet)", 5 SDATA (hiz) "Serial Data Output.  Serial data from the AD7896 is provided at this output. The serial data is clocked out by the falling edge of SCLK, but the data can also be read on the falling edge of the SCLK. This is possible because (See Datasheet)", 6 DGND (power) "Digital Ground. Ground reference for digital circuitry", 7 ~{CONVST} (in) "Convert Start. Edge-triggered logic input. On the falling edge of this input, the track-and-hold goes into its hold mode and conversion is initiated. If C\O\N\V\S\T\ is low at the end of conversion, the part goes into (See Datasheet)", 8 BUSY (out) "The BUSY pin is used to indicate when the part is doing a conversion. The BUSY pin goes high on the falling edge of C\O\N\V\S\T\ and returns low when the conversion is complete."

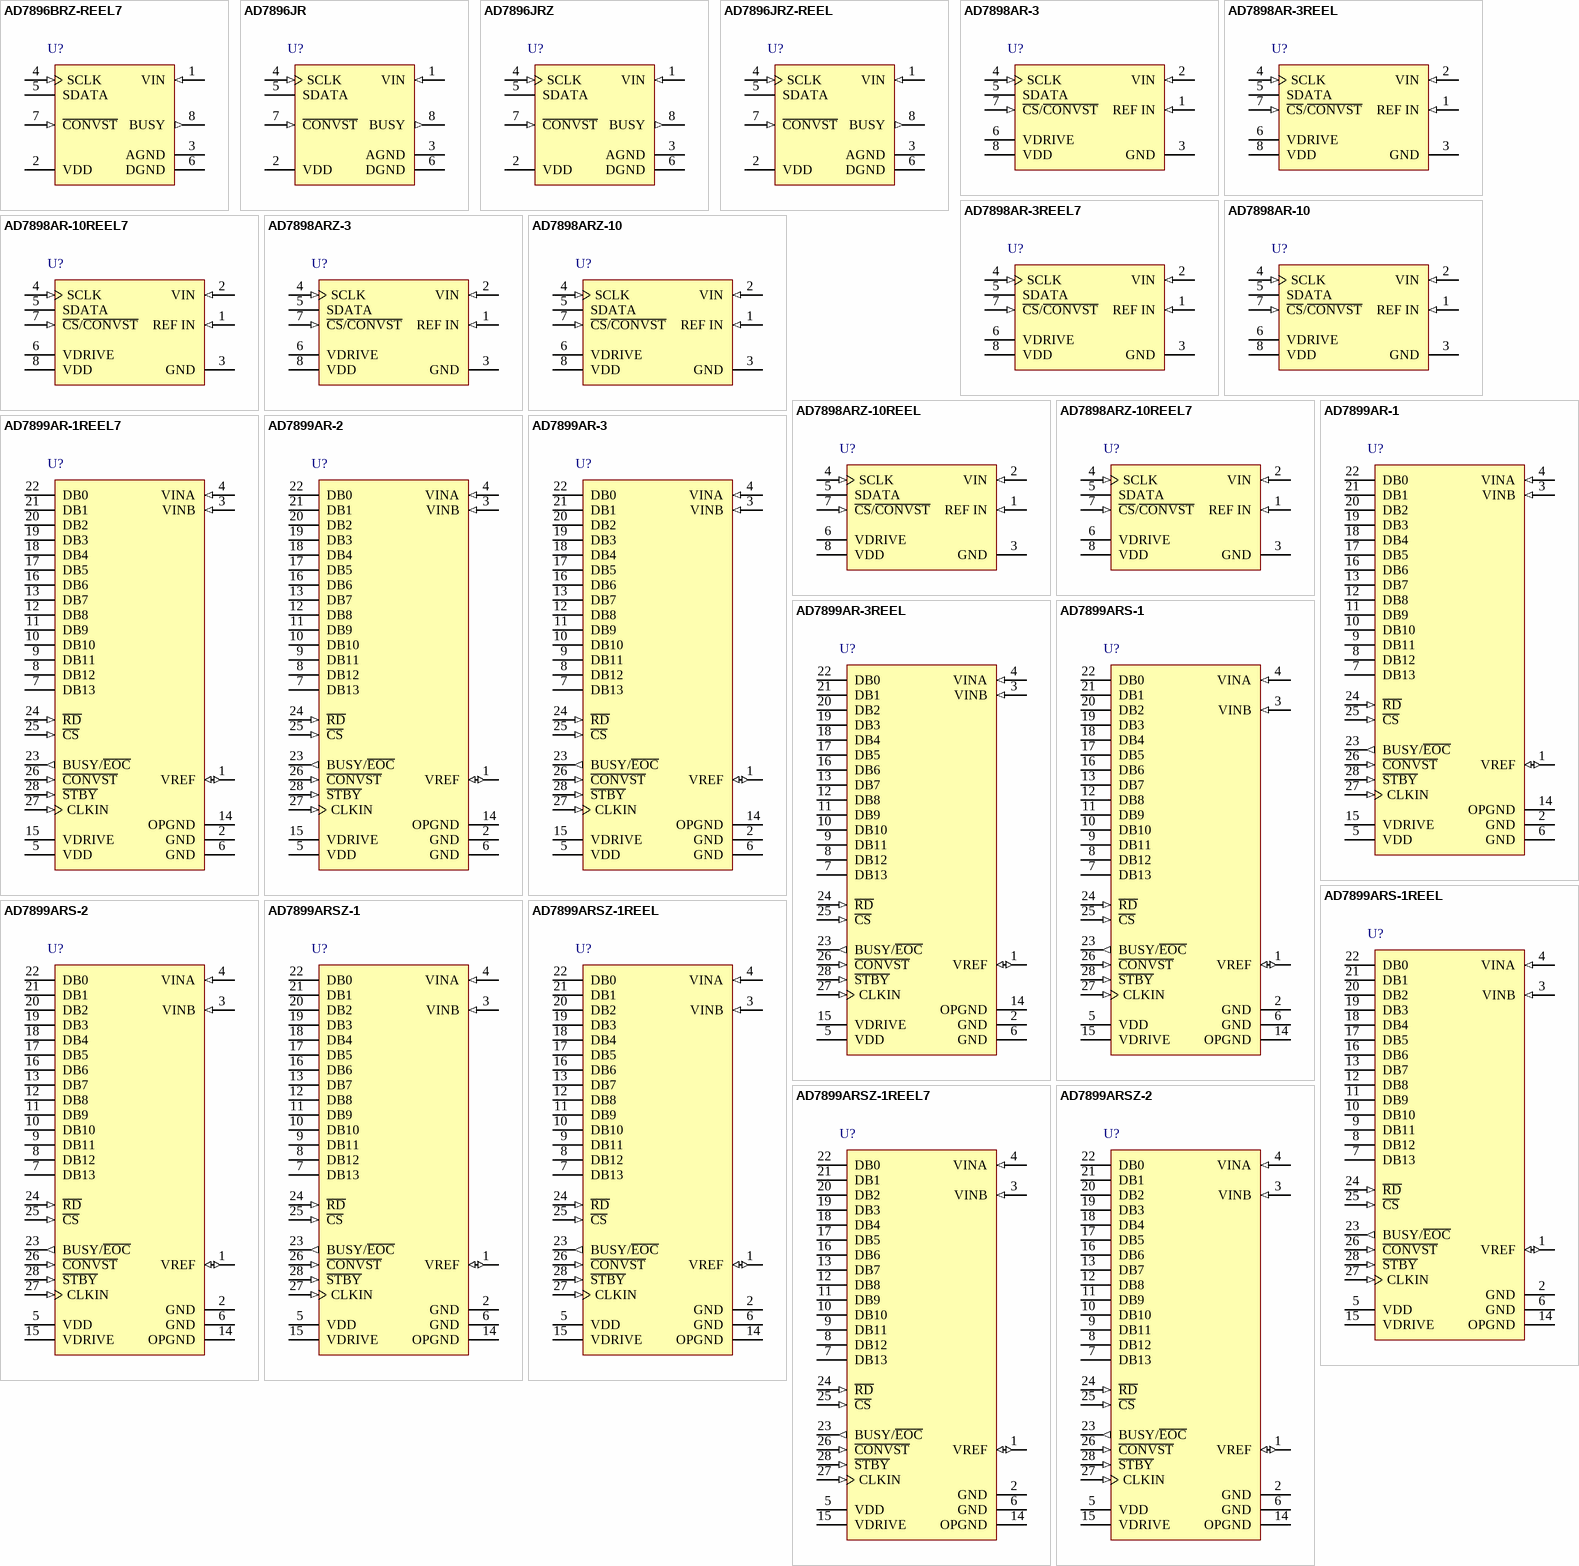
[diagram p87: symbols AD7896BRZ-REEL7 to AD7899ARSZ-2]

## AD7896BRZ-REEL7
designator U?
Single 12-Bit Analog-to-Digital Converter with Serial Interface, 8 us, 2.7 V to 5.5 V, 100KSPS, 0 to +70 degC, R-8, Pb-Free, Reel; Part Number: AD7896; Manufacturer: Analog Devices; Resolution (Bits): 12; Channels: 1; Throughput Rate (SPS): 100K; Interface: Ser; DatasheetVersion: Rev.D; PackageVersion: 060506-A; PackageReference: R-8; PackageDescription: 8-Lead Standard Small Outline Package [SOIC_N] Narrow Body; RoHS: Y; Packing: Reel; Mounting Technology: Surface Mount; Code_JEDEC: MS-012-AA; Code_IPC: SOIC127P600-8; ComponentLink1Description: Manufacturer URL; ComponentLink1URL: http://www.analog.com/en/index.html; ComponentLink2Description: Datasheet; ComponentLink2URL: http://www.analog.com/static/imported-files/data_sheets/AD7896.pdf; ComponentLink3Description: Package Specification; ComponentLink3URL: http://www.analog.com/static/imported-files/packages/PKG_PDF/SOIC_Narrow%20(R)/R_8.pdf; ComponentLink4Description: Product URL; ComponentLink4URL: http://www.analog.com/en/analog-to-digital-converters/ad-converters/ad7896/products/product.html
footprint R-8_N (SOIC, 8-Leads, Body 4.9x3.9mm, Pitch 1.27mm, IPC Medium Density)
footprint R-8_L (SOIC, 8-Leads, Body 4.9x3.9mm, Pitch 1.27mm, IPC High Density)
footprint R-8_M (SOIC, 8-Leads, Body 4.9x3.9mm, Pitch 1.27mm, IPC Low Density)
pins: 1 VIN (in) "Analog Input. The analog input range is 0 V to VDD.", 2 VDD (power) "Positive supply voltage, 2.7 V to 5.5 V", 3 AGND (power) "Analog Ground. Ground reference for track-and-hold, comparator, and DAC.", 4 SCLK (in) "Serial Clock Input. An external serial clock is applied to this input to obtain serial data from the AD7896. A new serial data bit is clocked out on the falling edge of this serial clock. Data is guaranteed valid for 10 ns (See Datasheet)", 5 SDATA (hiz) "Serial Data Output.  Serial data from the AD7896 is provided at this output. The serial data is clocked out by the falling edge of SCLK, but the data can also be read on the falling edge of the SCLK. This is possible because (See Datasheet)", 6 DGND (power) "Digital Ground. Ground reference for digital circuitry", 7 ~{CONVST} (in) "Convert Start. Edge-triggered logic input. On the falling edge of this input, the track-and-hold goes into its hold mode and conversion is initiated. If C\O\N\V\S\T\ is low at the end of conversion, the part goes into (See Datasheet)", 8 BUSY (out) "The BUSY pin is used to indicate when the part is doing a conversion. The BUSY pin goes high on the falling edge of C\O\N\V\S\T\ and returns low when the conversion is complete."